# Altium schematic symbol library Molex Microfit 2.0 3x2.SchLib: 1 symbol
Pins are listed as number, name and electrical type; pins without a type are passive.

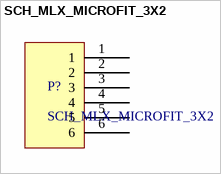
[diagram p0: symbol SCH_MLX_MICROFIT_3X2]

## SCH_MLX_MICROFIT_3X2
designator P?
footprint PCB_MLX_MICROFIT_3X2
pins: 1, 2, 3, 4, 5, 6